# EAGLE library part M02X3 (library ihpcb-pin_header)
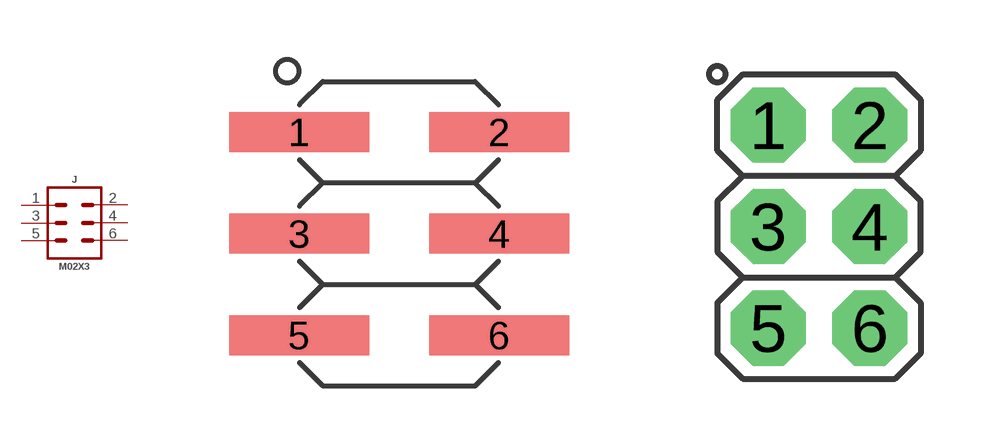
[diagram p1: symbol with the pads of H3X2_100_MIL_SMD; footprints H3X2_100_MIL_SMD, H3X2_100_MIL_TH]

Designator prefix J

## M02X3_SMD  [H3X2_100_MIL_SMD]
1  1
2  2
3  3
4  4
5  5
6  6

## M02X3_TH  [H3X2_100_MIL_TH]
Pads as for H3X2_100_MIL_SMD

## Footprint H3X2_100_MIL_SMD (pad centres in mm)
smd 3.5 x 1: 1 -2.5,2.54; 2 2.5,2.54; 3 -2.5,0; 4 2.5,0; 5 -2.5,-2.54; 6 2.5,-2.54

## Footprint H3X2_100_MIL_TH (pad centres in mm)
drill 1.016 pad 1.88 octagon: 1 -1.27,2.54; 2 1.27,2.54; 3 -1.27,0; 4 1.27,0; 5 -1.27,-2.54; 6 1.27,-2.54